# EAGLE library part REF7050QDGKR (library REF7050QDGKR)
Voltage References REF70XX 5.0 V LOW NOISE DGK Source: Datasheet <https://www.ti.com/lit/ds/symlink/ref70.pdf?ts=1705897089094&ref_url=https%3A%2F%2Fwww.mouser.mx%2F>
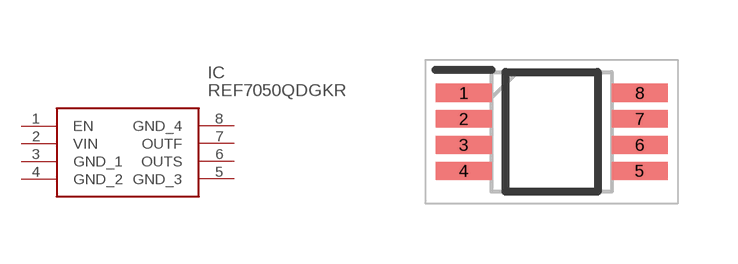
[diagram p0: symbol with the pads of SOP65P490X110-8N; footprint SOP65P490X110-8N]

Designator prefix IC

## REF7050QDGKR (Description: Voltage References REF70XX 5.0 V LOW NOISE DGK; Height: 1.1mm; Manufacturer_Name: Texas Instruments; Manufacturer_Part_Number: REF7050QDGKR)  [SOP65P490X110-8N]
1  EN
2  VIN
3  GND_1
4  GND_2
5  GND_3
6  OUTS
7  OUTF
8  GND_4

## Footprint SOP65P490X110-8N (pad centres in mm)
vssop
smd 1.4 x 0.45: 1 -2.2,0.975; 2 -2.2,0.325; 3 -2.2,-0.325; 4 -2.2,-0.975; 5 2.2,-0.975; 6 2.2,-0.325; 7 2.2,0.325; 8 2.2,0.975